# EAGLE library part BQ25570-1 (library integrated_circuits)
TEXAS INSTRUMENTS BQ25570 - VQFN20 http://www.ti.com/lit/ds/symlink/bq25570.pdf
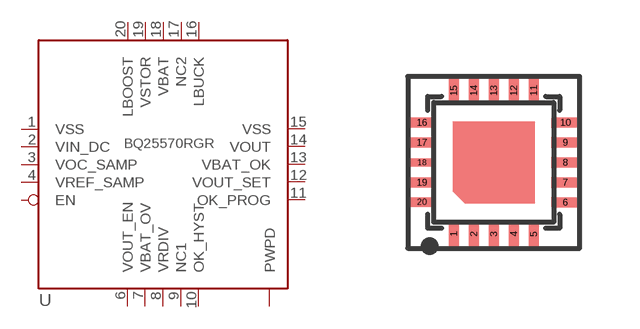
[diagram p2: symbol with the pads of BQ25570; footprint BQ25570]

Designator prefix U

## BQ25570-1RGR  [BQ25570]
1  VSS  pwr
2  VIN_DC  pwr
3  VOC_SAMP  in
4  VREF_SAMP  in
5  EN  in
6  VOUT_EN  in
7  VBAT_OV  in
8  VRDIV
9  NC1  pwr
10  OK_HYST  in
11  OK_PROG  in
12  VOUT_SET  in
13  VBAT_OK  out
14  VOUT  pwr
15  VSS  pwr
16  LBUCK  pwr
17  NC2  pwr
18  VBAT  pwr
19  VSTOR
20  LBOOST  pwr

## Footprint BQ25570 (pad centres in mm)
PLASTIC QUAD FLATPACK NO-LEAD S-PVQFN-N20
smd 0.25 x 0.71: 1 -1,-1.795; 2 -0.5,-1.795; 3 0,-1.795; 4 0.5,-1.795; 5 1,-1.795; 11 1,1.795; 12 0.5,1.795; 13 0,1.795; 14 -0.5,1.795; 15 -1,1.795
smd 0.71 x 0.25: 6 1.795,-1; 7 1.795,-0.5; 8 1.795,0; 9 1.795,0.5; 10 1.795,1; 16 -1.795,1; 17 -1.795,0.5; 19 -1.795,-0.5
smd 0.71 x 0.2: 18 -1.795,0
smd 0.71 x 0.23: 20 -1.795,-1